# EAGLE library part AT30TS75X (library atmel-at30ts75x)
The Atmel® AT30TSE750A/AT30TSE752A/754A/758A are a complete, precise temperature monitoring device designed for use in a variety of applications that require the measuring of local temperatures as an integral part of the system's function and/or reliability. The AT30TSE752A/754A/758A devices combine a high-precision digital temperature sensor, programmable high and low temperature alarms, and a 2-wire I2C and SMBus (System Management Bus) compatible serial interface into a single, compact package. The temperature sensor can measure temperatures over the full -55C to +125C temperature range and has a typical accuracy as precise as ±0.5C from 0C to +85C. The result of the digitized temperature measurements are stored in one of the AT30TS75xA internal registers, which is readable at any time through the device's serial interface. X=0 no EEPROM; 2--2 kb; 4 --4 kb; 8 --8 kb The library has been designed by Richard Magdycz <https://www.facebook.com/groups/eaglecadsoftUK>
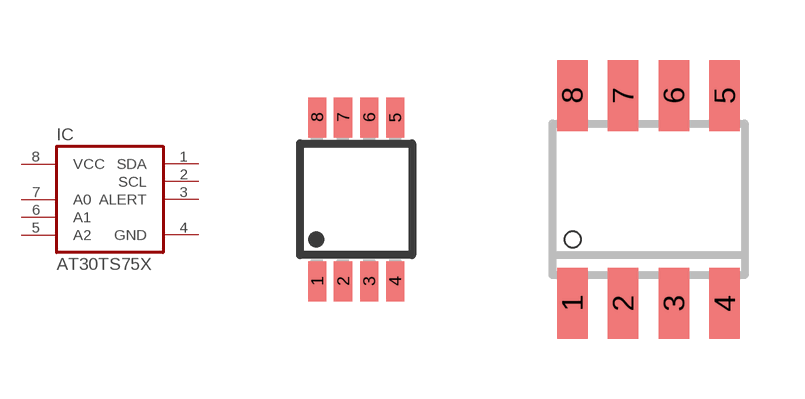
[diagram p0: symbol with the pads of MSOP8; footprints MSOP8, SO8]

Designator prefix IC

## AT30TS75XXM  [MSOP8]
1  SDA
2  SCL  in
3  ALERT  out
4  GND  pwr
5  A2  in
6  A1  in
7  A0  in
8  VCC  pwr

## AT30TS75XSS  [SO8]
Pads as for MSOP8

## AT30TS75XMA  [UDFN8]
1  SDA
2  SCL  in
3  ALERT  out
4  GND  pwr
5  A2  in
6  A1  in
7  A0  in
8  VCC  pwr
EP  GND  pwr

## Footprint MSOP8 (pad centres in mm)
Micro Small Outline Package Grid .65mm
smd 0.45 x 1: 1 -0.975,-2.05; 2 -0.325,-2.05; 3 0.325,-2.05; 4 0.975,-2.05; 5 0.975,2.05; 6 0.325,2.05; 7 -0.325,2.05; 8 -0.975,2.05

## Footprint SO8 (pad centres in mm)
SMALL OUTLINE INTEGRATED CIRCUIT
smd 0.762 x 1.778: 1 -1.905,-2.6; 2 -0.635,-2.6; 3 0.635,-2.6; 4 1.905,-2.6; 5 1.905,2.6; 6 0.635,2.6; 7 -0.635,2.6; 8 -1.905,2.6

## Footprint UDFN8 (pad centres in mm)
Package 8-Lead Plastic UDFN (2mm ×3mm)
smd 0.3 x 0.75: 1 -0.75,-1.375; 2 -0.25,-1.375; 3 0.25,-1.375; 4 0.75,-1.375; 5 0.75,1.375; 6 0.25,1.375; 7 -0.25,1.375; 8 -0.75,1.375
smd 1.4 x 1.4: EP 0,0